# EAGLE library part 332-06 (library con-garry)
6 Pin - 2mm Dual Row Source: www.mpe-connector.de / garry_shortform_2012.pdf
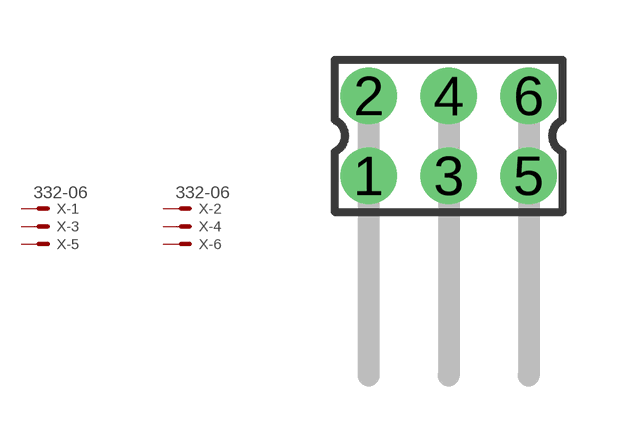
[diagram p7: symbol with the pads of 332-06; footprint 332-06]

Designator prefix X; gates -1=MV -2=MV -3=M -4=M -5=M -6=M

## 332-06  [332-06]
1  -1:S  pas
2  -2:S  pas
3  -3:S  pas
4  -4:S  pas
5  -5:S  pas
6  -6:S  pas

## Footprint 332-06 (pad centres in mm)
6 Pin - 2mm Dual Row Source: www.mpe-connector.de / garry_shortform_2012.pdf
drill 0.9 pad 1.27: 1 -2,-1; 2 -2,1; 3 0,-1; 4 0,1; 5 2,-1; 6 2,1